# EAGLE library part AD7779 (library JK-adcs)
The AD7771 is an 8-channel, simultaneous sampling analog-to-digital converter (ADC) manufactured by Analog Devices.
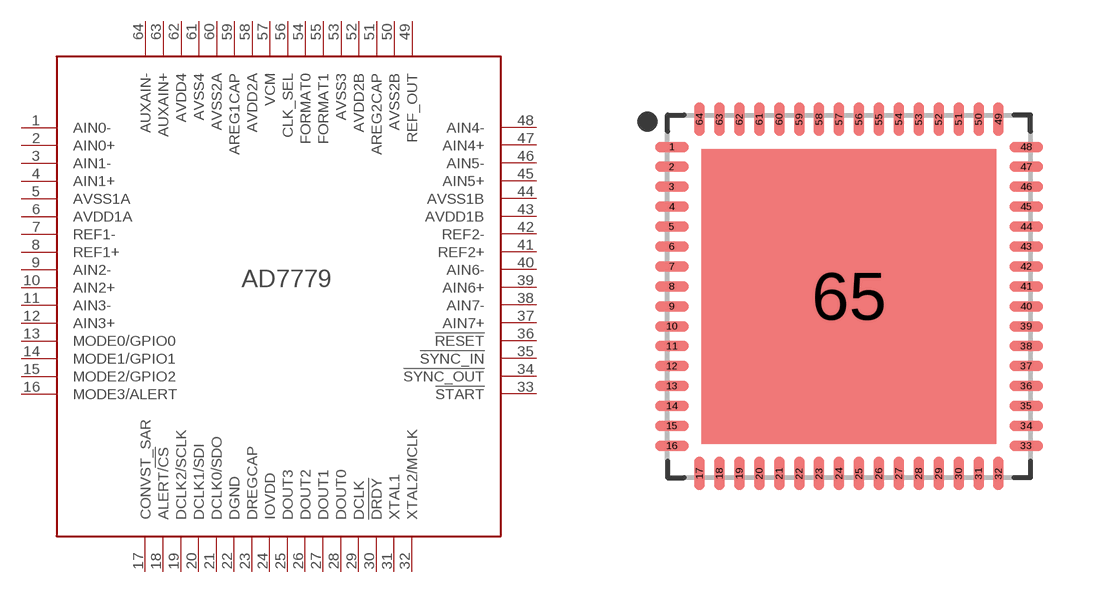
[diagram p1: symbol with the pads of 64-LFCSP; footprint 64-LFCSP]

Designator prefix -

## AD7779 (GENERATOR: Jake Kapala; MANUFACTURER: Analog Devices; MAX_ANALOG_VOLTAGE: 3.96V; MAX_DIGITAL_VOLTAGE: 3.96V; MAX_SUPPLY_VOLTAGE: 3.96V; PACKAGE: LFCSP; PINS: 64; TYPE: Delta-Sigma)  [64-LFCSP]
1  AIN0-
2  AIN0+
3  AIN1-
4  AIN1+
5  AVSS1A
6  AVDD1A
7  REF1-
8  REF1+
9  AIN2-
10  AIN2+
11  AIN3-
12  AIN3+
13  MODE0/GPIO0
14  MODE1/GPIO1
15  MODE2/GPIO2
16  MODE3/ALERT
17  CONVST_SAR
18  ALERT/!CS
19  DCLK2/SCLK
20  DCLK1/SDI
21  DCLK0/SDO
22  DGND
23  DREGCAP
24  IOVDD
25  DOUT3
26  DOUT2
27  DOUT1
28  DOUT0
29  DCLK
30  !DRDY
31  XTAL1
32  XTAL2/MCLK
33  !START
34  !SYNC_OUT
35  !SYNC_IN
36  !RESET
37  AIN7+
38  AIN7-
39  AIN6+
40  AIN6-
41  REF2+
42  REF2-
43  AVDD1B
44  AVSS1B
45  AIN5+
46  AIN5-
47  AIN4+
48  AIN4-
49  REF_OUT
50  AVSS2B
51  AREG2CAP
52  AVDD2B
53  AVSS3
54  FORMAT0
55  FORMAT1
56  CLK_SEL
57  VCM
58  AVDD2A
59  AREG1CAP
60  AVSS2A
61  AVSS4
62  AVDD4
63  AUXAIN+
64  AUXAIN-

## Footprint 64-LFCSP (pad centres in mm)
64-QFN, 0.50 mm pitch, 9.00 X 9.00 X 0.80 mm body, 7.40 X 7.40 mm thermal pad 64-pin QFN package with 0.50 mm pitch with body size 9.00 X 9.00 X 0.80 mm and thermal pad size 7.40 X 7.40 mm
smd 0.838 x 0.264: 1 -4.446,3.75; 2 -4.446,3.25; 3 -4.446,2.75; 4 -4.446,2.25; 5 -4.446,1.75; 6 -4.446,1.25; 7 -4.446,0.75; 8 -4.446,0.25; 9 -4.446,-0.25; 10 -4.446,-0.75; 11 -4.446,-1.25; 12 -4.446,-1.75; 13 -4.446,-2.25; 14 -4.446,-2.75; 15 -4.446,-3.25; 16 -4.446,-3.75; 33 4.446,-3.75; 34 4.446,-3.25; 35 4.446,-2.75; 36 4.446,-2.25; 37 4.446,-1.75; 38 4.446,-1.25; 39 4.446,-0.75; 40 4.446,-0.25; 41 4.446,0.25; 42 4.446,0.75; 43 4.446,1.25; 44 4.446,1.75; 45 4.446,2.25; 46 4.446,2.75; 47 4.446,3.25; 48 4.446,3.75
smd 0.264 x 0.838: 17 -3.75,-4.446; 18 -3.25,-4.446; 19 -2.75,-4.446; 20 -2.25,-4.446; 21 -1.75,-4.446; 22 -1.25,-4.446; 23 -0.75,-4.446; 24 -0.25,-4.446; 25 0.25,-4.446; 26 0.75,-4.446; 27 1.25,-4.446; 28 1.75,-4.446; 29 2.25,-4.446; 30 2.75,-4.446; 31 3.25,-4.446; 32 3.75,-4.446; 49 3.75,4.446; 50 3.25,4.446; 51 2.75,4.446; 52 2.25,4.446; 53 1.75,4.446; 54 1.25,4.446; 55 0.75,4.446; 56 0.25,4.446; 57 -0.25,4.446; 58 -0.75,4.446; 59 -1.25,4.446; 60 -1.75,4.446; 61 -2.25,4.446; 62 -2.75,4.446; 63 -3.25,4.446; 64 -3.75,4.446
smd 7.4 x 7.4: 65 0,0